# Altium integrated library HHO_DRIVE_V1.IntLib: 16 symbols
Pins are listed as number, name and electrical type; pins without a type are passive.

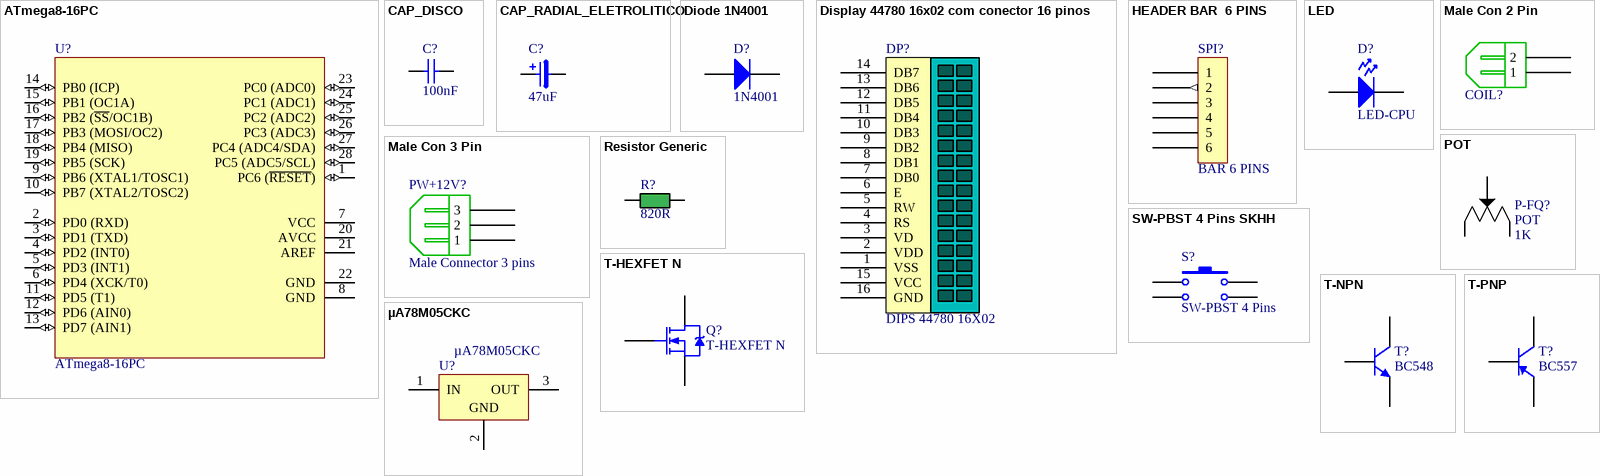
[diagram p0: symbols ATmega8-16PC to µA78M05CKC]

## ATmega8-16PC
designator U?
8-Bit AVR Microcontroller with 8K Bytes of In-System Programmable Flash Memory
footprint 28P3
pins: 1 PC6 (~{RESET}) (io), 2 PD0 (RXD) (io), 3 PD1 (TXD) (io), 4 PD2 (INT0) (io), 5 PD3 (INT1) (io), 6 PD4 (XCK/T0) (io), 7 VCC (power), 8 GND (power), 9 PB6 (XTAL1/TOSC1) (io), 10 PB7 (XTAL2/TOSC2) (io), 11 PD5 (T1) (io), 12 PD6 (AIN0) (io), 13 PD7 (AIN1) (io), 14 PB0 (ICP) (io), 15 PB1 (OC1A) (io), 16 PB2 (~{SS}/OC1B) (io), 17 PB3 (MOSI/OC2) (io), 18 PB4 (MISO) (io), 19 PB5 (SCK) (io), 20 AVCC (power), 21 AREF, 22 GND (power), 23 PC0 (ADC0) (io), 24 PC1 (ADC1) (io), 25 PC2 (ADC2) (io), 26 PC3 (ADC3) (io), 27 PC4 (ADC4/SDA) (io), 28 PC5 (ADC5/SCL) (io)

## CAP_DISCO
designator C?, comment value 100nF  (hidden comment: Disco)
SMD Capacitor 1210 size
footprint CAP CER DISK 3MM
footprint CAP CER DISK 5MM
pins: 1, 2

## CAP_RADIAL_ELETROLITICO
designator C?, comment value 47uF  (hidden comment: Cap. Elet.)
Capacitor Radial Eletrolitico
footprint CAP_RADIAL_2_10_16 (Cap Radial 2mm x 10mm x 16mm height)
footprint CAP_RADIAL_3.5_8_14.5 Deitado (Cap Radial 3.5mm x 8mm x 14.5mm height)
footprint CAP ELE RAD 11mm H (Cap Eletrolitic Radial 11mm Height)
pins: 1, 2

## Diode 1N4001
designator D?, comment 1N4001
1 Amp General Purpose Rectifier; Published: 8-Jun-2000; LatestRevisionDate: 17-Jul-2002; LatestRevisionNote: Re-released for DXP Platform.; DatasheetDocument: 1998; PackageDocument: Aug-1999; PackageReference: DO-41; Publisher: Altium Limited; Code_JEDEC: DO-204-AL; ComponentLink1Description: Manufacturer Link; ComponentLink1URL: http://www.fairchildsemi.com/; ComponentLink2Description: Datasheet; ComponentLink2URL: http://www.fairchildsemi.com/ds/1N%2F1N4001.pdf
footprint DO-41 (Diode, Axial; Body 5.2 x 2.7 mm (LxDia. max), Lead Dia. 0.86 mm (max))
pins: 1 A, 2 K

## Display 44780 16x02 com conector 16 pinos
designator DP?, comment DIPS 44780 16X02
Display 44780 16x02 com conector 16 pinos
footprint Display 44780 16x02 com conector
pins: 1 VSS (power), 2 VDD (power), 3 VD, 4 RS, 5 RW, 6 E, 7 DB0, 8 DB1, 9 DB2, 10 DB3, 11 DB4, 12 DB5, 13 DB6, 14 DB7, 15 VCC (power), 16 GND (power)

## HEADER BAR  6 PINS
designator SPI?, comment BAR 6 PINS
.100 Inch AMPMODU Headers 1-826629-0 (Tyco)
footprint HEADER BAR 6 PINS (.100 Inch AMPMODU Header 6 Pins)
pins: 1, 2 (out), 3, 4, 5, 6

## LED
designator D?, comment LED-CPU
LED
footprint LED Blue 3mm
footprint LED Green 3mm
footprint LED Red 3mm
footprint LED YELLOW 3mm (LED Yellow 3mm)
footprint LED Red 3mm 90
footprint LED Green 3mm 90
footprint LED Blue 3mm 90
footprint LED Yellow 3mm 90
footprint LED White 3mm
footprint LED White 3mm 90
footprint LED RED 5MM (LED 5mm 0 graus)
footprint LED SMD LTST-C171GKT
footprint LED-5MM TRANSPARENTE (LED 5MM Transparente para montagem emissor deitado)
footprint LED-5MM UP-SIDE-DOWN TRANSPARENTE (LED 5MM Transparente para montagem up-side-down)
pins: A, K

## Male Con 2 Pin
designator COIL?, comment Male Connector 2 pins  (value not drawn)
footprint BR8MN-2 (Metaltex male 2pin connector 90o)
footprint PCMC1-2 (Connector 2pins Metaltex)
footprint BPSC-2 (Metaltex BPSC Serie Barra de Pinos Simples Coluna)
footprint BR102A (MetalTex Borne 2 vias passo 5mm)
pins: 1, 2

## Male Con 3 Pin
designator PW+12V?, comment Male Connector 3 pins
footprint PCMC1-3 (Connector 3pins Metaltex)
footprint BR7MN2-3 (Metaltex male 3pin connector)
footprint BPSC-3 (Metaltex BPSC Serie Barra de Pinos Simples Coluna)
footprint BR103A (MetalTex Borne 3 vias passo 5mm)
pins: 1, 2, 3

## POT
designator P-FQ?  value 1K
Potenciometer 3 pins
footprint POT 200MIL (Pot 200Mil between pin)
footprint POT 200MIL/400MIL (Pot 200Mil/400Mil)
pins: 1, 2, 3

## Resistor Generic
designator R?  value 820R  (hidden comment: Resistor Generic)
Generic Resistor
footprint RES 300 CR25 (Resistor CR25 300Mil height 2.4)
footprint RES 300 CR25 EM PE (Resistor CR25 300Mil em Pé height 8.5)
footprint RES_0805 (Resistor SMD 0805)
footprint RES_0402 (Resistor SMD 0402)
footprint RES_0603 (Resistor SMD 0603)
pins: 1, 2

## SW-PBST 4 Pins SKHH
designator S?, comment SW-PBST 4 Pins
Published: 24-Mar-1999; LatestRevisionDate: 17-Jul-2002; LatestRevisionNote: Re-released for DXP Platform.; PackageReference: SPST-2; Publisher: Altium Limited
footprint SW-PBST 4 Pins - SKHH 17 mm (Tactile switch SKHH 17mm)
footprint SW-PBST 4 Pins - SKHH 13mm (Tactile switch SKHH 13mm)
pins: 1, 2, 3, 4

## T-HEXFET N
designator Q?
HEXFET Power MOSFET
footprint TO220 (TO, Thru-Hole, Vertical, Heatsink Mounted; 3 In-Line Leads; Pitch 2.54 mm)
footprint TO218 (TO, Thru-Hole, Vertical, Heatsink Mounted; 3 In-Line Leads; Pitch 5.45 mm)
footprint TO218 - DEITADO (TO, Thru-Hole, Horizontal, Heatsink Mounted; 3 In-Line Leads; Pitch 5.45 mm)
pins: 1 G, 2 D, 3 S

## T-NPN
designator T?, comment value BC548  (hidden comment: Transistor)
General Bipolar Transistor NPN
footprint TO-92 (TO, Flat Index; 3 In-Line, Axial Leads; Body Dia. 4.6mm; Leads 0.41 x 0.39 mm (max))
footprint TO-92 - Large (TO, Flat Index; 3 In-Line, Axial Leads; Body Dia. 4.6mm; Leads 0.41 x 0.39 mm (max))
pins: 1 E, 2 B, 3 C

## T-PNP
designator T?, comment value BC557  (hidden comment: Transistor)
General Bipolar Transistor NPN
footprint TO-92 (TO, Flat Index; 3 In-Line, Axial Leads; Body Dia. 4.6mm; Leads 0.41 x 0.39 mm (max))
footprint TO-92 - Large (TO, Flat Index; 3 In-Line, Axial Leads; Body Dia. 4.6mm; Leads 0.41 x 0.39 mm (max))
pins: 1 E, 2 B, 3 C

## µA78M05CKC
designator U?
Positive-Voltage Regulator; Note: Pin 2 is electrically connected to TAB.; Published: 15-Apr-2002; DatasheetVersion: Jul-1999; PackageVersion: Sep-1995; PackageReference: KC03; Publisher: Altium Limited; PackageDescription: TO, Thru-Hole, Vertical, Heatsink Mounted; 3 In-Line Leads; Pitch 2.54 mm; ComponentLink1Description: Manufacturer Link; ComponentLink1URL: http://www.ti.com/; ComponentLink2Description: Datasheet; ComponentLink2URL: http://www-s.ti.com/sc/ds/ua78m05.pdf
footprint KC03 (TO, Thru-Hole, Vertical, Heatsink Mounted; 3 In-Line Leads; Pitch 2.54 mm)
footprint KC03 - Deitado (TO, Thru-Hole, Vertical, Heatsink Mounted; 3 In-Line Leads; Pitch 2.54 mm)
pins: 1 IN (power), 2 GND (power), 3 OUT (power)